# Altium footprint library CAPPRD250W80D600H1100.PcbLib: 1 footprints
Each footprint in its own frame and in the unit in brackets; x right, y up, seen from the top. Pads: shape width x height; smd on the part's side, far side on the other; paste and mask are expansions set on the pad; w line width, h text height; cw(c..) or ccw(c..) is an arc to the next point about the centre after c.
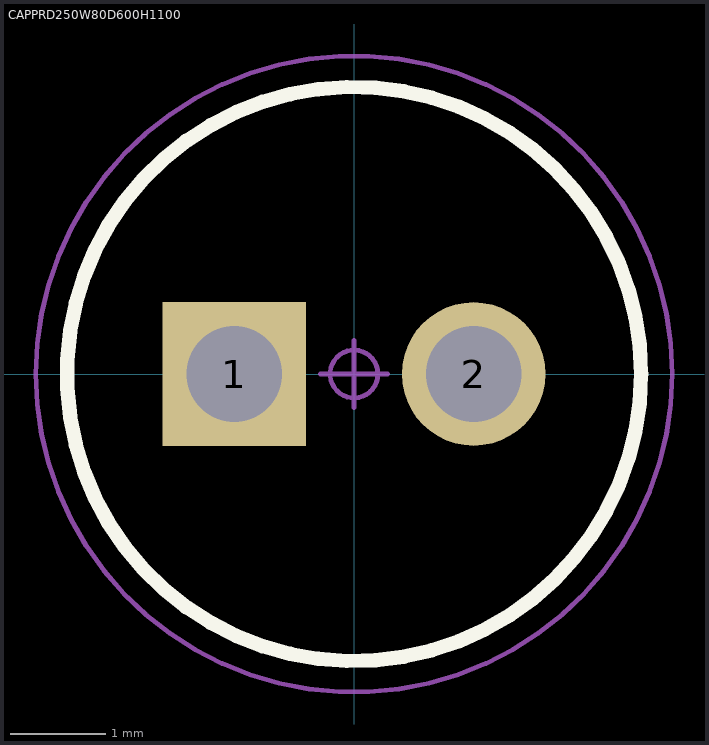
[diagram p0: the footprint, top view; thin cyan lines are the x and y axes]

## CAPPRD250W80D600H1100 [mm] "Capacitor, Polarized, Radial (Electrolytic); 2.50 mm Pitch X 6.00 mm Dia X 11.00 mm H body"
height 11
pads (2):
  rect 1.5x1.5 / inner round 1.5 / far side rect 1.5x1.5 hole 1 paste-1.5: 1(-1.25,0)
  round 1.5 hole 1 paste-1.5: 2(1.25,0)
Top Overlay:
  circle w0.15: c0,0 r3
Mechanical 3:
  circle w0.12: c0,0 r3
Mechanical 5:
  circle w0.025: c1.25,0 r0.4
  circle w0.025: c-1.25,0 r0.4
Mechanical 7:
  circle w0.05: c0,0 r0.25
  circle w0.05: c0,0 r3.325
  circle w0.025: c0,0 r3
  lines w0.05: -0.35,0 0.35,0 ; 0,-0.35 0,0.35
3D body "CAPPRD250W80D600H1100.STEP": height 11.01, standoff -2, extent -3,-3 3.01,3